# EAGLE library part AD5160 (library wolfi)
256-Position SPI-Compatible Digital Potentiometer www.analog.com/en/products/digital-to-analog-converters/precision-dac/digital-potentiometers/ad5160.html
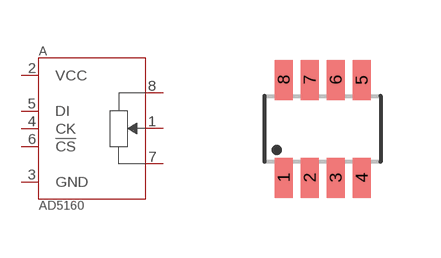
[diagram p32: symbol with the pads of SOT23-8L; footprint SOT23-8L]

Designator prefix A

## AD5160  [SOT23-8L]
1  W  pas
2  VCC  pwr
3  GND  pwr
4  CK  in
5  DI  in
6  !CS  in
7  B  pas
8  A  pas

## Footprint SOT23-8L (pad centres in mm)
SC70/SOT23-8 Source: http://datasheets.maxim-ic.com/en/ds/MAX4335-MAX4338.pdf
smd 0.45 x 1: 1 -0.975,-1.225; 2 -0.325,-1.225; 3 0.325,-1.225; 4 0.975,-1.225; 5 0.975,1.225; 6 0.325,1.225; 7 -0.325,1.225; 8 -0.975,1.225